# Altium schematic symbol library CRG0603F10K_10.SchLib: 1 symbol
Pins are listed as number, name and electrical type; pins without a type are passive.

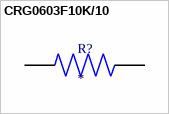
[diagram p0: symbol CRG0603F10K/10]

## CRG0603F10K/10
designator R?
Thick Film Resistors - SMD CRG0603 1% 10K 10K RL; MF: {'manufacturer': u'TE Connectivity'}; MP: CRG0603F10K/10; Value: *; Price: None; Package: None; Availability: Unavailable
footprint RESC1608X55N
pins: 1, 2